# Altium footprint library JACK_ST-09G-0.PcbLib: 1 footprints
Each footprint in its own frame and in the unit in brackets; x right, y up, seen from the top. Pads: shape width x height; smd on the part's side, far side on the other; paste and mask are expansions set on the pad; w line width, h text height; cw(c..) or ccw(c..) is an arc to the next point about the centre after c.
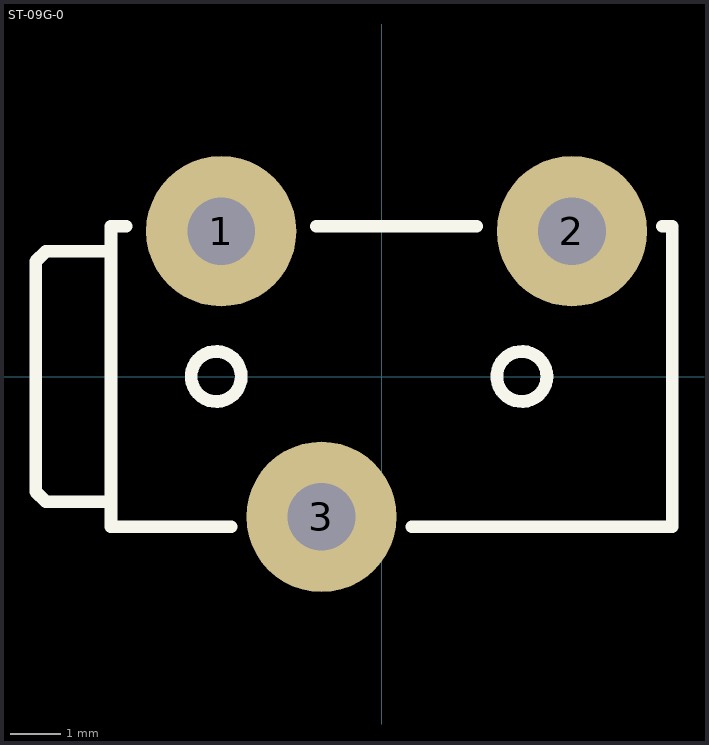
[diagram p0: the footprint, top view; thin cyan lines are the x and y axes]

## ST-09G-0 [mm] "Stereo jack socket 3,5mm"
height 5
pads (3):
  round 3 hole 1.35: 1(-3.2,2.9) 2(3.8,2.9) 3(-1.2,-2.8)
Top Overlay:
  circle w0.254: c-3.3,0 r0.5
  circle w0.254: c2.8,0 r0.5
  lines w0.254: -5.4,-2.5 -6.7,-2.5 -6.9,-2.3 -6.9,2.3 -6.7,2.5 -5.4,2.5 ; -5.1,3 -5.4,3 -5.4,-3 -3,-3 ; -1.3,3 -1,3 1.7,3 1.9,3 ; 0.6,-3 5.8,-3 5.8,3 5.6,3
Drill Drawing:
  circle w0.254: c-3.3,0 r0.51
  circle w0.254: c2.8,0 r0.51